# EAGLE library part TPS65983B (library TPS65983B)
Ti Universal USB Type-C™ and Power Delivery (PD) 3.0 Controller TPS65983B Datasheet <http://www.ti.com/lit/ds/symlink/tps65983b.pdf>
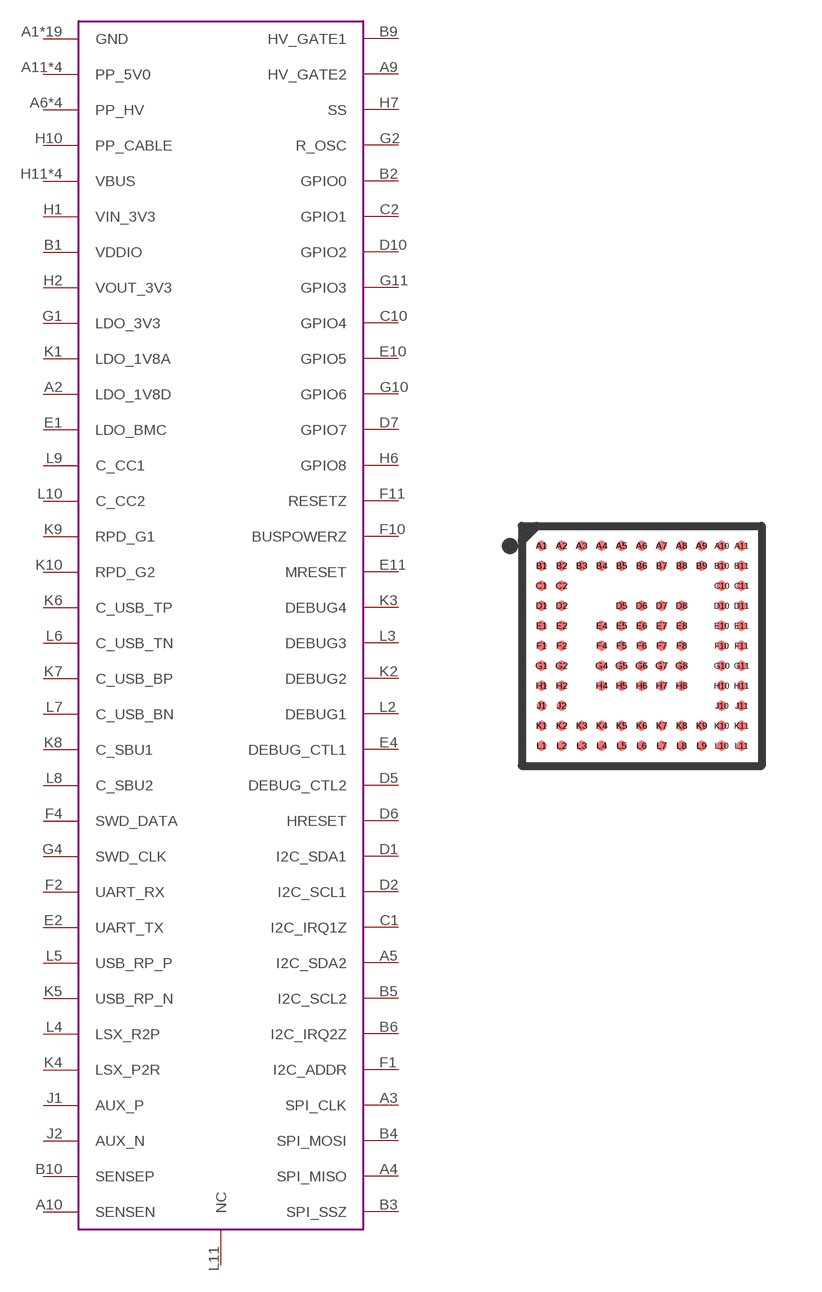
[diagram p0: symbol with the pads of TPS65983B; footprint TPS65983B]

Designator prefix -

## TPS65983BAZQZR  [TPS65983B]
A1  GND  pwr
A2  LDO_1V8D  pwr
A3  SPI_CLK  out
A4  SPI_MISO  in
A5  I2C_SDA2
A6  PP_HV  pwr
A7  PP_HV  pwr
A8  PP_HV  pwr
A9  HV_GATE2  out
A10  SENSEN  in
A11  PP_5V0  pwr
B1  VDDIO  pwr
B2  GPIO0
B3  SPI_SSZ  out
B4  SPI_MOSI  out
B5  I2C_SCL2
B6  I2C_IRQ2Z  out
B7  PP_HV  pwr
B8  GND  pwr
B9  HV_GATE1  out
B10  SENSEP  in
B11  PP_5V0  pwr
C1  I2C_IRQ1Z  out
C2  GPIO1
C10  GPIO4
C11  PP_5V0  pwr
D1  I2C_SDA1
D2  I2C_SCL1
D5  DEBUG_CTL2
D6  HRESET  in
D7  GPIO7
D8  GND  pwr
D10  GPIO2
D11  PP_5V0  pwr
E1  LDO_BMC  pwr
E2  UART_TX  out
E4  DEBUG_CTL1
E5  GND  pwr
E6  GND  pwr
E7  GND  pwr
E8  GND  pwr
E10  GPIO5
E11  MRESET
F1  I2C_ADDR
F2  UART_RX  in
F4  SWD_DATA
F5  GND  pwr
F6  GND  pwr
F7  GND  pwr
F8  GND  pwr
F10  BUSPOWERZ
F11  RESETZ
G1  LDO_3V3  pwr
G2  R_OSC
G4  SWD_CLK  in
G5  GND  pwr
G6  GND  pwr
G7  GND  pwr
G8  GND  pwr
G10  GPIO6
G11  GPIO3
H1  VIN_3V3  pwr
H2  VOUT_3V3  pwr
H4  GND  pwr
H5  GND  pwr
H6  GPIO8
H7  SS  out
H8  GND  pwr
H10  PP_CABLE  pwr
H11  VBUS  pwr
J1  AUX_P
J2  AUX_N
J10  VBUS  pwr
J11  VBUS  pwr
K1  LDO_1V8A  pwr
K2  DEBUG2
K3  DEBUG4
K4  LSX_P2R  out
K5  USB_RP_N
K6  C_USB_TP
K7  C_USB_BP
K8  C_SBU1
K9  RPD_G1
K10  RPD_G2
K11  VBUS  pwr
L1  GND  pwr
L2  DEBUG1
L3  DEBUG3
L4  LSX_R2P  in
L5  USB_RP_P
L6  C_USB_TN
L7  C_USB_BN
L8  C_SBU2
L9  C_CC1
L10  C_CC2
L11  NC  nc

## Footprint TPS65983B (pad centres in mm)
smd 0.25 x 0.25: A1 -2.5,2.5; A2 -2,2.5; A3 -1.5,2.5; A4 -1,2.5; A5 -0.5,2.5; A6 0,2.5; A7 0.5,2.5; A8 1,2.5; A9 1.5,2.5; A10 2,2.5; A11 2.5,2.5; B1 -2.5,2; B2 -2,2; B3 -1.5,2; B4 -1,2; B5 -0.5,2; B6 0,2; B7 0.5,2; B8 1,2; B9 1.5,2; B10 2,2; B11 2.5,2; C1 -2.5,1.5; C2 -2,1.5; C10 2,1.5; C11 2.5,1.5; D1 -2.5,1; D2 -2,1; D5 -0.5,1; D6 0,1; D7 0.5,1; D8 1,1; D10 2,1; D11 2.5,1; E1 -2.5,0.5; E2 -2,0.5; E4 -1,0.5; E5 -0.5,0.5; E6 0,0.5; E7 0.5,0.5; E8 1,0.5; E10 2,0.5; E11 2.5,0.5; F1 -2.5,0; F2 -2,0; F4 -1,0; F5 -0.5,0; F6 0,0; F7 0.5,0; F8 1,0; F10 2,0; F11 2.5,0; G1 -2.5,-0.5; G2 -2,-0.5; G4 -1,-0.5; G5 -0.5,-0.5; G6 0,-0.5; G7 0.5,-0.5; G8 1,-0.5; G10 2,-0.5; G11 2.5,-0.5; H1 -2.5,-1; H2 -2,-1; H4 -1,-1; H5 -0.5,-1; H6 0,-1; H7 0.5,-1; H8 1,-1; H10 2,-1; H11 2.5,-1; J1 -2.5,-1.5; J2 -2,-1.5; J10 2,-1.5; J11 2.5,-1.5; K1 -2.5,-2; K2 -2,-2; K3 -1.5,-2; K4 -1,-2; K5 -0.5,-2; K6 0,-2; K7 0.5,-2; K8 1,-2; K9 1.5,-2; K10 2,-2; K11 2.5,-2; L1 -2.5,-2.5; L2 -2,-2.5; L3 -1.5,-2.5; L4 -1,-2.5; L5 -0.5,-2.5; L6 0,-2.5; L7 0.5,-2.5; L8 1,-2.5; L9 1.5,-2.5; L10 2,-2.5; L11 2.5,-2.5